# EAGLE library part BTS5215L (library transistor-power)
Smart High-Side Power Switch Two Channels: 2 x 90mΩ Source: BTS5215L.pdf
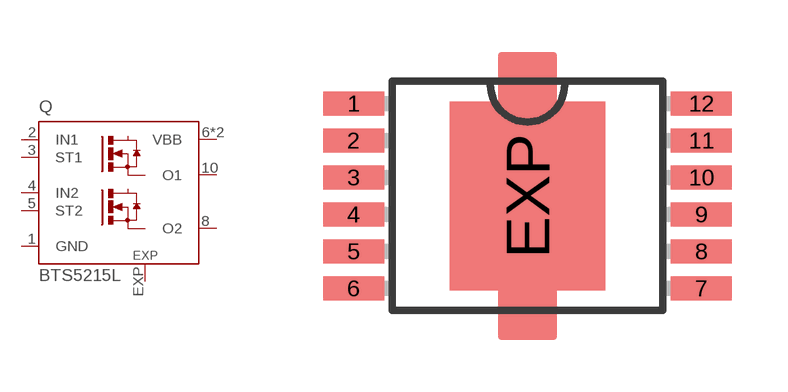
[diagram p1: symbol with the pads of PG-DSO-12-9; footprint PG-DSO-12-9]

Designator prefix Q

## BTS5215L  [PG-DSO-12-9]
1  GND  pwr
2  IN1  in
3  ST1  in
4  IN2  in
5  ST2  in
6  VBB  pwr
8  O2  in
10  O1  in
12  VBB  pwr
EXP  EXP  pas

## Footprint PG-DSO-12-9 (pad centres in mm)
PG-DSO-12-9 Auto generated by make-symbol-device-package-bsdl.ulp Rev. 44 Source: BTS5215L.pdf
smd 1.65 x 0.65: 1 -4.7,2.5; 2 -4.7,1.5; 3 -4.7,0.5; 4 -4.7,-0.5; 5 -4.7,-1.5; 6 -4.7,-2.5; 7 4.7,-2.5; 8 4.7,-1.5; 9 4.7,-0.5; 10 4.7,0.5; 11 4.7,1.5; 12 4.7,2.5
smd 4.2 x 5.1: EXP 0,0